# Altium schematic symbol library drv.SchLib: 1 symbol
Pins are listed as number, name and electrical type; pins without a type are passive.

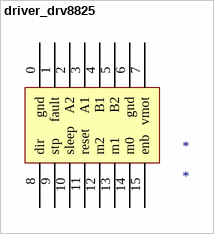
[diagram p0: symbol driver_drv8825]

## driver_drv8825
designator *
footprint drive_drv8825
pins: 0 gnd, 1 fault, 2 A2, 3 A1, 4 B1, 5 B2, 6 gnd, 7 vmot, 8 dir, 9 stp, 10 sleep, 11 reset, 12 m2, 13 m1, 14 m0, 15 enb